# EAGLE library part BME280 (library BME280)
DIGITAL HUMIDITY, PRESSURE AND TEMPERATURE SENSOR * Digital interface I²C (up to 3.4 MHz) and SPI (3 and 4 wire, up to 10 MHz)* Supply voltage VDD main supply voltage range: 1.71 V to 3.6 V*VDDIO interface voltage range: 1.2 V to 3.6 V Operating range -40…+85 °C, 0…100 % rel. humidity, 300…1100 hPa The library has been designed by Richard Magdycz <https://www.facebook.com/groups/eaglecadsoftUK>
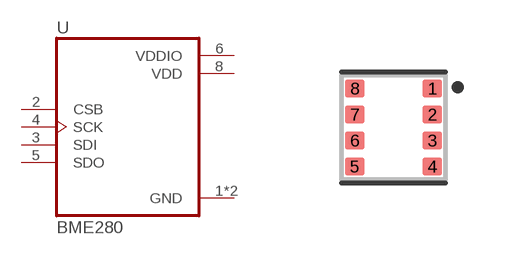
[diagram p0: symbol with the pads of PSON65P250X250X100-8N; footprint PSON65P250X250X100-8N]

Designator prefix U

## BME280 (Description: Humidity Temperature Sensor 0 ~ 100% RH I²C, SPI ±3% 1s Surface Mount; Digi-Key_Part_Number: 828-1063-1-ND; MF: Bosch; MP: BME280; Package: LGA-8 Bosch; Purchase-URL: https://pricing.snapeda.com/search/part/BME280/?ref=eda)  [PSON65P250X250X100-8N]
1  GND  pwr
2  CSB  in
3  SDI
4  SCK  in
5  SDO
6  VDDIO  pwr
7  GND  pwr
8  VDD  pwr

## Footprint PSON65P250X250X100-8N (pad centres in mm)
2.5 mm x 2.5 mm x 0.93 mm metal lid LGA
smd 0.49 x 0.45: 1 0.97,0.975; 2 0.97,0.325; 3 0.97,-0.325; 4 0.97,-0.975; 5 -0.97,-0.975; 6 -0.97,-0.325; 7 -0.97,0.325; 8 -0.97,0.975